# EAGLE library part USB_CON_VERTICAL (library ZHAW_BA)
Mikro USB Connector, Vertikal, 5Pin DigiKey: Pt.Nr: 2073-USB3131-30-0230-ACT-ND https://www.digikey.ch/product-detail/de/gct/USB3131-30-0230-A/2073-USB3131-30-0230-ACT-ND/9859713
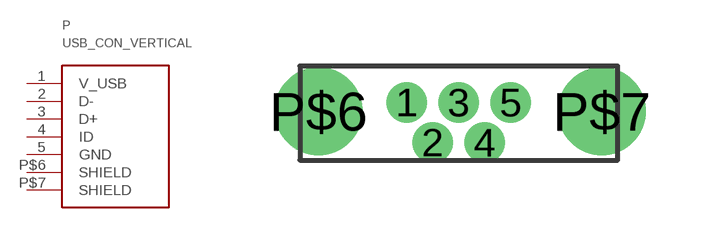
[diagram p4: symbol with the pads of USB3131; footprint USB3131]

Designator prefix P

## USB_CON_VERTICAL  [USB3131]
1  V_USB
2  D-
3  D+
4  ID
5  GND
P$6  SHIELD
P$7  SHIELD

## Footprint USB3131 (pad centres in mm)
drill 0.5: 1 -1.3,1; 2 -0.65,0; 3 0,1; 4 0.65,0; 5 1.3,1
drill 1.35 pad 2.2: P$6 -3.515,0.78; P$7 3.575,0.78